# Altium footprint library Diod.PcbLib: 392 footprints (part 9 of 25)
Each footprint in its own frame and in the unit in brackets; x right, y up, seen from the top. Pads: shape width x height; smd on the part's side, far side on the other; paste and mask are expansions set on the pad; w line width, h text height; cw(c..) or ccw(c..) is an arc to the next point about the centre after c.
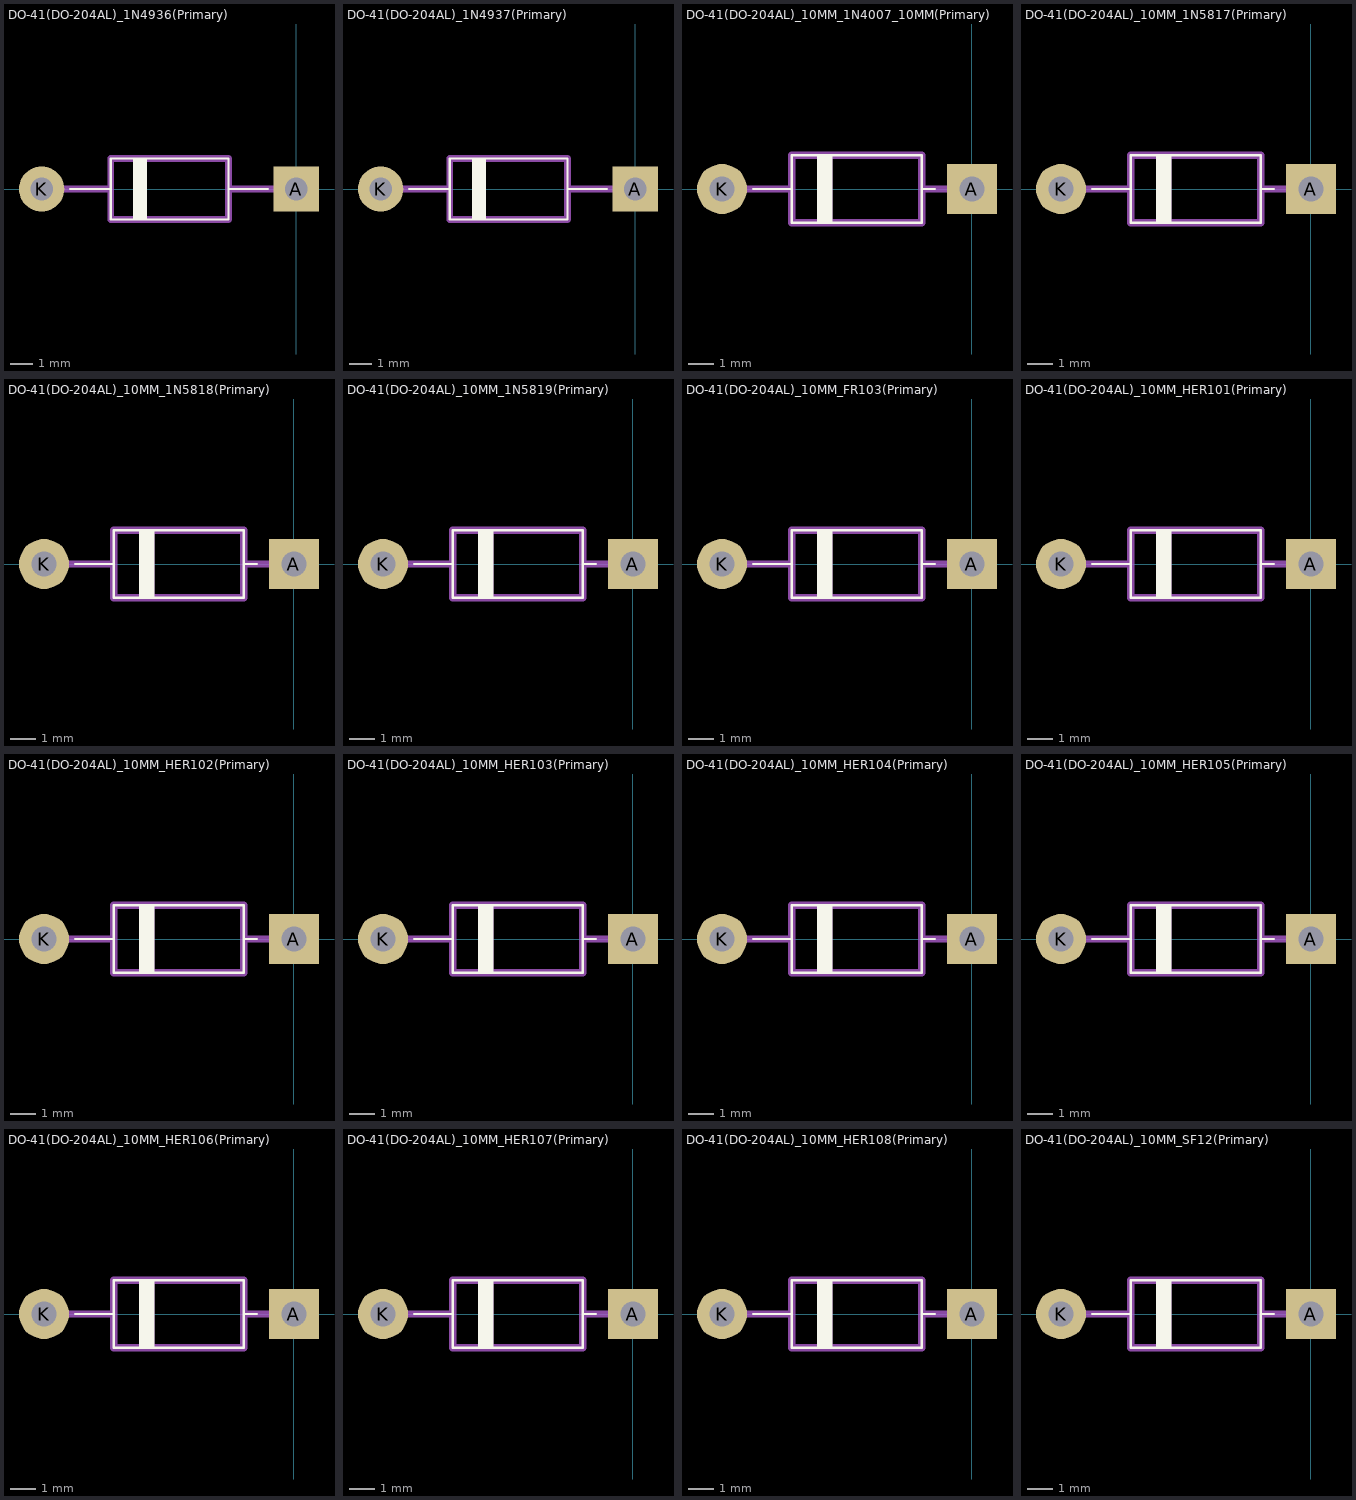
[diagram p8: the footprints below, top view; thin cyan lines are the x and y axes]

## DO-41(DO-204AL)_1N4936(Primary) [mm]
pads (2):
  rect 2x2 hole 1: A(0,0)
  round 2 hole 1: K(-11.25,0)
Top Overlay:
  region: -7.2,-1.35 -6.6,-1.35 -6.6,1.35 -7.2,1.35
  lines w0.1: -10,0 -8.2,0 ; -1.25,0 -3,0 ; -8.2,0 -8.2,1.35 -3,1.35 -3,0 ; -8.2,0 -8.2,-1.35 -3,-1.35 -3,0
Mechanical 1:
  region: -7.2,-1.35 -6.6,-1.35 -6.6,1.35 -7.2,1.35
  lines w0.3: -11.25,0 -8.2,0 ; 0,0 -3,0 ; -8.2,0 -8.2,1.35 -3,1.35 -3,0 ; -8.2,0 -8.2,-1.35 -3,-1.35 -3,0

## DO-41(DO-204AL)_1N4937(Primary) [mm]
pads (2):
  rect 2x2 hole 1: A(0,0)
  round 2 hole 1: K(-11.25,0)
Top Overlay:
  region: -7.2,-1.35 -6.6,-1.35 -6.6,1.35 -7.2,1.35
  lines w0.1: -10,0 -8.2,0 ; -1.25,0 -3,0 ; -8.2,0 -8.2,1.35 -3,1.35 -3,0 ; -8.2,0 -8.2,-1.35 -3,-1.35 -3,0
Mechanical 1:
  region: -7.2,-1.35 -6.6,-1.35 -6.6,1.35 -7.2,1.35
  lines w0.3: -11.25,0 -8.2,0 ; 0,0 -3,0 ; -8.2,0 -8.2,1.35 -3,1.35 -3,0 ; -8.2,0 -8.2,-1.35 -3,-1.35 -3,0

## DO-41(DO-204AL)_10MM_1N4007_10MM(Primary) [mm]
pads (2):
  rect 2x2 hole 1: A(0,0)
  round 2 hole 1: K(-10,0)
Top Overlay:
  region: -6.2,-1.35 -5.6,-1.35 -5.6,1.35 -6.2,1.35
  lines w0.1: -8.75,0 -7.2,0 ; -1.5,0 -2,0 ; -7.2,0 -7.2,1.35 -2,1.35 -2,0 ; -7.2,0 -7.2,-1.35 -2,-1.35 -2,0
Mechanical 1:
  region: -6.2,-1.35 -5.6,-1.35 -5.6,1.35 -6.2,1.35
  lines w0.3: -10,0 -7.2,0 ; 0,0 -2,0 ; -7.2,0 -7.2,1.35 -2,1.35 -2,0 ; -7.2,0 -7.2,-1.35 -2,-1.35 -2,0

## DO-41(DO-204AL)_10MM_1N5817(Primary) [mm]
pads (2):
  rect 2x2 hole 1: A(0,0)
  round 2 hole 1: K(-10,0)
Top Overlay:
  region: -6.2,-1.35 -5.6,-1.35 -5.6,1.35 -6.2,1.35
  lines w0.1: -8.75,0 -7.2,0 ; -1.5,0 -2,0 ; -7.2,0 -7.2,1.35 -2,1.35 -2,0 ; -7.2,0 -7.2,-1.35 -2,-1.35 -2,0
Mechanical 1:
  region: -6.2,-1.35 -5.6,-1.35 -5.6,1.35 -6.2,1.35
  lines w0.3: -10,0 -7.2,0 ; 0,0 -2,0 ; -7.2,0 -7.2,1.35 -2,1.35 -2,0 ; -7.2,0 -7.2,-1.35 -2,-1.35 -2,0

## DO-41(DO-204AL)_10MM_1N5818(Primary) [mm]
pads (2):
  rect 2x2 hole 1: A(0,0)
  round 2 hole 1: K(-10,0)
Top Overlay:
  region: -6.2,-1.35 -5.6,-1.35 -5.6,1.35 -6.2,1.35
  lines w0.1: -8.75,0 -7.2,0 ; -1.5,0 -2,0 ; -7.2,0 -7.2,1.35 -2,1.35 -2,0 ; -7.2,0 -7.2,-1.35 -2,-1.35 -2,0
Mechanical 1:
  region: -6.2,-1.35 -5.6,-1.35 -5.6,1.35 -6.2,1.35
  lines w0.3: -10,0 -7.2,0 ; 0,0 -2,0 ; -7.2,0 -7.2,1.35 -2,1.35 -2,0 ; -7.2,0 -7.2,-1.35 -2,-1.35 -2,0

## DO-41(DO-204AL)_10MM_1N5819(Primary) [mm]
pads (2):
  rect 2x2 hole 1: A(0,0)
  round 2 hole 1: K(-10,0)
Top Overlay:
  region: -6.2,-1.35 -5.6,-1.35 -5.6,1.35 -6.2,1.35
  lines w0.1: -8.75,0 -7.2,0 ; -1.5,0 -2,0 ; -7.2,0 -7.2,1.35 -2,1.35 -2,0 ; -7.2,0 -7.2,-1.35 -2,-1.35 -2,0
Mechanical 1:
  region: -6.2,-1.35 -5.6,-1.35 -5.6,1.35 -6.2,1.35
  lines w0.3: -10,0 -7.2,0 ; 0,0 -2,0 ; -7.2,0 -7.2,1.35 -2,1.35 -2,0 ; -7.2,0 -7.2,-1.35 -2,-1.35 -2,0

## DO-41(DO-204AL)_10MM_FR103(Primary) [mm]
pads (2):
  rect 2x2 hole 1: A(0,0)
  round 2 hole 1: K(-10,0)
Top Overlay:
  region: -6.2,-1.35 -5.6,-1.35 -5.6,1.35 -6.2,1.35
  lines w0.1: -8.75,0 -7.2,0 ; -1.5,0 -2,0 ; -7.2,0 -7.2,1.35 -2,1.35 -2,0 ; -7.2,0 -7.2,-1.35 -2,-1.35 -2,0
Mechanical 1:
  region: -6.2,-1.35 -5.6,-1.35 -5.6,1.35 -6.2,1.35
  lines w0.3: -10,0 -7.2,0 ; 0,0 -2,0 ; -7.2,0 -7.2,1.35 -2,1.35 -2,0 ; -7.2,0 -7.2,-1.35 -2,-1.35 -2,0

## DO-41(DO-204AL)_10MM_HER101(Primary) [mm]
pads (2):
  rect 2x2 hole 1: A(0,0)
  round 2 hole 1: K(-10,0)
Top Overlay:
  region: -6.2,-1.35 -5.6,-1.35 -5.6,1.35 -6.2,1.35
  lines w0.1: -8.75,0 -7.2,0 ; -1.5,0 -2,0 ; -7.2,0 -7.2,1.35 -2,1.35 -2,0 ; -7.2,0 -7.2,-1.35 -2,-1.35 -2,0
Mechanical 1:
  region: -6.2,-1.35 -5.6,-1.35 -5.6,1.35 -6.2,1.35
  lines w0.3: -10,0 -7.2,0 ; 0,0 -2,0 ; -7.2,0 -7.2,1.35 -2,1.35 -2,0 ; -7.2,0 -7.2,-1.35 -2,-1.35 -2,0

## DO-41(DO-204AL)_10MM_HER102(Primary) [mm]
pads (2):
  rect 2x2 hole 1: A(0,0)
  round 2 hole 1: K(-10,0)
Top Overlay:
  region: -6.2,-1.35 -5.6,-1.35 -5.6,1.35 -6.2,1.35
  lines w0.1: -8.75,0 -7.2,0 ; -1.5,0 -2,0 ; -7.2,0 -7.2,1.35 -2,1.35 -2,0 ; -7.2,0 -7.2,-1.35 -2,-1.35 -2,0
Mechanical 1:
  region: -6.2,-1.35 -5.6,-1.35 -5.6,1.35 -6.2,1.35
  lines w0.3: -10,0 -7.2,0 ; 0,0 -2,0 ; -7.2,0 -7.2,1.35 -2,1.35 -2,0 ; -7.2,0 -7.2,-1.35 -2,-1.35 -2,0

## DO-41(DO-204AL)_10MM_HER103(Primary) [mm]
pads (2):
  rect 2x2 hole 1: A(0,0)
  round 2 hole 1: K(-10,0)
Top Overlay:
  region: -6.2,-1.35 -5.6,-1.35 -5.6,1.35 -6.2,1.35
  lines w0.1: -8.75,0 -7.2,0 ; -1.5,0 -2,0 ; -7.2,0 -7.2,1.35 -2,1.35 -2,0 ; -7.2,0 -7.2,-1.35 -2,-1.35 -2,0
Mechanical 1:
  region: -6.2,-1.35 -5.6,-1.35 -5.6,1.35 -6.2,1.35
  lines w0.3: -10,0 -7.2,0 ; 0,0 -2,0 ; -7.2,0 -7.2,1.35 -2,1.35 -2,0 ; -7.2,0 -7.2,-1.35 -2,-1.35 -2,0

## DO-41(DO-204AL)_10MM_HER104(Primary) [mm]
pads (2):
  rect 2x2 hole 1: A(0,0)
  round 2 hole 1: K(-10,0)
Top Overlay:
  region: -6.2,-1.35 -5.6,-1.35 -5.6,1.35 -6.2,1.35
  lines w0.1: -8.75,0 -7.2,0 ; -1.5,0 -2,0 ; -7.2,0 -7.2,1.35 -2,1.35 -2,0 ; -7.2,0 -7.2,-1.35 -2,-1.35 -2,0
Mechanical 1:
  region: -6.2,-1.35 -5.6,-1.35 -5.6,1.35 -6.2,1.35
  lines w0.3: -10,0 -7.2,0 ; 0,0 -2,0 ; -7.2,0 -7.2,1.35 -2,1.35 -2,0 ; -7.2,0 -7.2,-1.35 -2,-1.35 -2,0

## DO-41(DO-204AL)_10MM_HER105(Primary) [mm]
pads (2):
  rect 2x2 hole 1: A(0,0)
  round 2 hole 1: K(-10,0)
Top Overlay:
  region: -6.2,-1.35 -5.6,-1.35 -5.6,1.35 -6.2,1.35
  lines w0.1: -8.75,0 -7.2,0 ; -1.5,0 -2,0 ; -7.2,0 -7.2,1.35 -2,1.35 -2,0 ; -7.2,0 -7.2,-1.35 -2,-1.35 -2,0
Mechanical 1:
  region: -6.2,-1.35 -5.6,-1.35 -5.6,1.35 -6.2,1.35
  lines w0.3: -10,0 -7.2,0 ; 0,0 -2,0 ; -7.2,0 -7.2,1.35 -2,1.35 -2,0 ; -7.2,0 -7.2,-1.35 -2,-1.35 -2,0

## DO-41(DO-204AL)_10MM_HER106(Primary) [mm]
pads (2):
  rect 2x2 hole 1: A(0,0)
  round 2 hole 1: K(-10,0)
Top Overlay:
  region: -6.2,-1.35 -5.6,-1.35 -5.6,1.35 -6.2,1.35
  lines w0.1: -8.75,0 -7.2,0 ; -1.5,0 -2,0 ; -7.2,0 -7.2,1.35 -2,1.35 -2,0 ; -7.2,0 -7.2,-1.35 -2,-1.35 -2,0
Mechanical 1:
  region: -6.2,-1.35 -5.6,-1.35 -5.6,1.35 -6.2,1.35
  lines w0.3: -10,0 -7.2,0 ; 0,0 -2,0 ; -7.2,0 -7.2,1.35 -2,1.35 -2,0 ; -7.2,0 -7.2,-1.35 -2,-1.35 -2,0

## DO-41(DO-204AL)_10MM_HER107(Primary) [mm]
pads (2):
  rect 2x2 hole 1: A(0,0)
  round 2 hole 1: K(-10,0)
Top Overlay:
  region: -6.2,-1.35 -5.6,-1.35 -5.6,1.35 -6.2,1.35
  lines w0.1: -8.75,0 -7.2,0 ; -1.5,0 -2,0 ; -7.2,0 -7.2,1.35 -2,1.35 -2,0 ; -7.2,0 -7.2,-1.35 -2,-1.35 -2,0
Mechanical 1:
  region: -6.2,-1.35 -5.6,-1.35 -5.6,1.35 -6.2,1.35
  lines w0.3: -10,0 -7.2,0 ; 0,0 -2,0 ; -7.2,0 -7.2,1.35 -2,1.35 -2,0 ; -7.2,0 -7.2,-1.35 -2,-1.35 -2,0

## DO-41(DO-204AL)_10MM_HER108(Primary) [mm]
pads (2):
  rect 2x2 hole 1: A(0,0)
  round 2 hole 1: K(-10,0)
Top Overlay:
  region: -6.2,-1.35 -5.6,-1.35 -5.6,1.35 -6.2,1.35
  lines w0.1: -8.75,0 -7.2,0 ; -1.5,0 -2,0 ; -7.2,0 -7.2,1.35 -2,1.35 -2,0 ; -7.2,0 -7.2,-1.35 -2,-1.35 -2,0
Mechanical 1:
  region: -6.2,-1.35 -5.6,-1.35 -5.6,1.35 -6.2,1.35
  lines w0.3: -10,0 -7.2,0 ; 0,0 -2,0 ; -7.2,0 -7.2,1.35 -2,1.35 -2,0 ; -7.2,0 -7.2,-1.35 -2,-1.35 -2,0

## DO-41(DO-204AL)_10MM_SF12(Primary) [mm]
pads (2):
  rect 2x2 hole 1: A(0,0)
  round 2 hole 1: K(-10,0)
Top Overlay:
  region: -6.2,-1.35 -5.6,-1.35 -5.6,1.35 -6.2,1.35
  lines w0.1: -8.75,0 -7.2,0 ; -1.5,0 -2,0 ; -7.2,0 -7.2,1.35 -2,1.35 -2,0 ; -7.2,0 -7.2,-1.35 -2,-1.35 -2,0
Mechanical 1:
  region: -6.2,-1.35 -5.6,-1.35 -5.6,1.35 -6.2,1.35
  lines w0.3: -10,0 -7.2,0 ; 0,0 -2,0 ; -7.2,0 -7.2,1.35 -2,1.35 -2,0 ; -7.2,0 -7.2,-1.35 -2,-1.35 -2,0